# Altium footprint library DSUB9-F-F.PcbLib: 1 footprints
Each footprint in its own frame and in the unit in brackets; x right, y up, seen from the top. Pads: shape width x height; smd on the part's side, far side on the other; paste and mask are expansions set on the pad; w line width, h text height; cw(c..) or ccw(c..) is an arc to the next point about the centre after c.
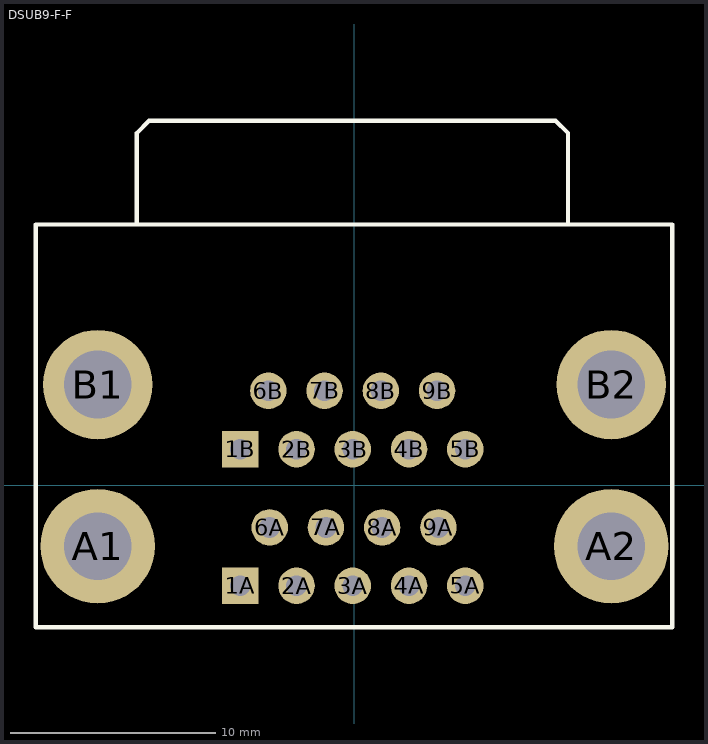
[diagram p0: the footprint, top view; thin cyan lines are the x and y axes]

## DSUB9-F-F [mil]
pads (22):
  rect 70x70 hole 40: 1A(-219,-193) 1B(-219,69)
  round 70 hole 40: 2A(-111.12,-193) 2B(-111.12,69) 3A(-3.25,-193) 3B(-3.25,69) 4A(104.63,-193) 4B(104.63,69) 5A(212.5,-193) 5B(212.5,69) 6A(-162.63,-81) 6B(-165.12,181) 7A(-54.75,-81) 7B(-57.25,181) 8A(53.12,-81) 8B(50.63,181) 9A(161,-81) 9B(158.5,181)
  round 220 hole 130: A1(-492.5,-117) A2(492.5,-117)
  round 210 hole 130: B1(-492.5,193) B2(492.5,193)
Top Overlay:
  lines w8: -417.42,502.07 -417.42,675.3 -393.8,698.92 385.73,698.92 409.35,675.3 409.35,502.07 ; -611.11,-272.48 -611.11,500.16 609.37,500.16 609.37,-272.48 -611.11,-272.48